# Altium integrated library CherryMX.IntLib: 2 symbols
Pins are listed as number, name and electrical type; pins without a type are passive.

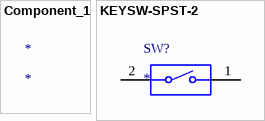
[diagram p0: symbols Component_1 to KEYSW-SPST-2]

## Component_1
designator *

## KEYSW-SPST-2
designator SW?
footprint CHRY-MX1A-11NW_V (THD, 2-Leads, Body 15.6x15.6mm)
pins: 1, 2